# EAGLE library part MIC29502BT (library my_relai)
Adjustable Voltage Regulator
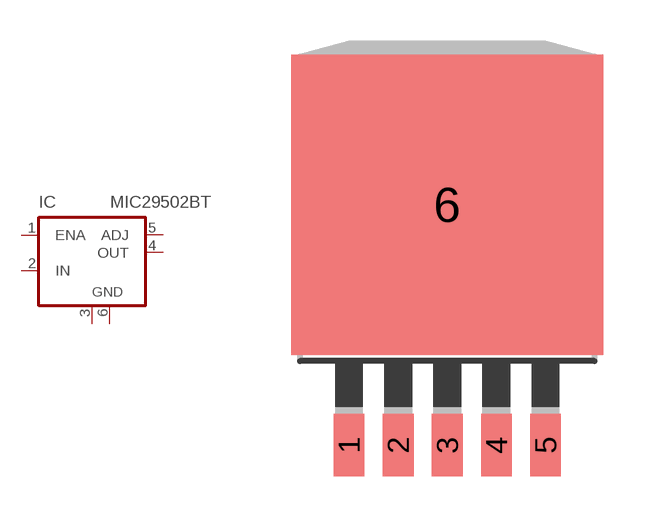
[diagram p11: symbol with the pads of TO263-5; footprint TO263-5]

Designator prefix IC

## MIC29502BT  [TO263-5]
1  ENA  in
2  IN  pas
3  GND  pwr
4  OUT  pas
5  ADJ  in
6  GND  pwr

## Footprint TO263-5 (pad centres in mm)
smd 1.067 x 2.159: 1 -3.404,-5.791; 2 -1.702,-5.791; 3 0,-5.791; 4 1.702,-5.791; 5 3.404,-5.791
smd 10.8 x 10.41: 6 0,2.54